# Altium integrated library Linear Technology Power Management System Supervisor, Monitor and Control.IntLib: 1611 symbols (part 100 of 100)
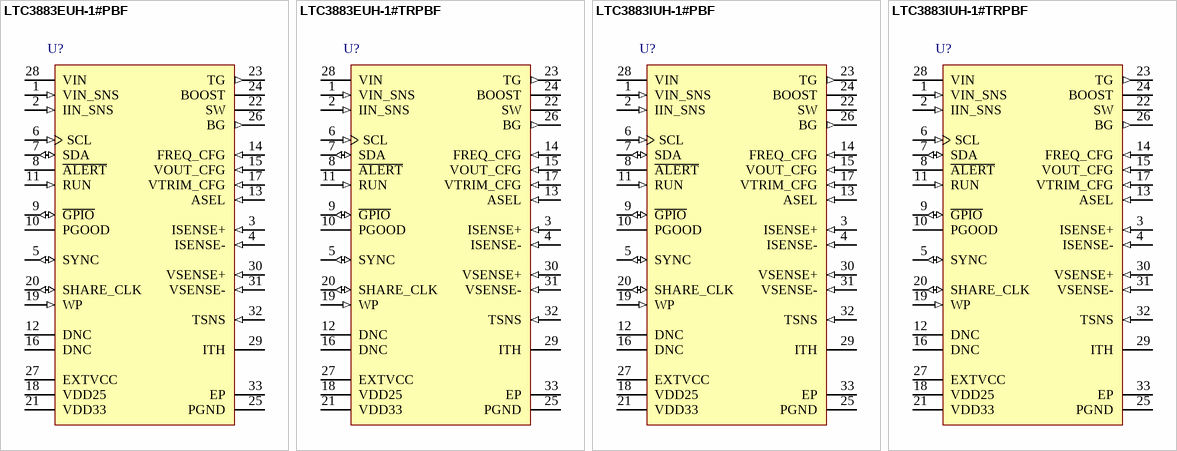
[diagram p144: symbols LTC3883EUH-1#PBF to LTC3883IUH-1#TRPBF]

## LTC3883EUH-1#PBF
designator U?
Single Phase Step-Down DC/DC Controller with Digital Power System Management, 32-pin QFN (UH-32), -40 to 105 degC, Pb-Free; Manufacturer: Linear Technology; PartNumber: LTC3883EUH-1#PBF; Number of Supplies(#): 1; PackageVersion: Rev. D, 06/2010; PackageReference: UH-32; PackageDescription: 32-Pin Plastic QFN, Body 5 x 5 mm, Pitch 0.5 mm; Supplier 1: Digi-Key; Supplier Part Number 1: LTC3883EUH-1#PBF-ND; Supplier 2: Farnell; Supplier Part Number 2: 2215166; Supplier 3: Newark; Supplier Part Number 3: 44W6811; RoHS: TRUE; Mounting Technology: Surface Mount; Code_JEDEC: MO-220; ComponentLink1Description: Manufacturer URL; ComponentLink1URL: http://www.linear.com/; ComponentLink2Description: Datasheet; ComponentLink2URL: http://cds.linear.com/docs/en/datasheet/3883f.pdf; ComponentLink3Description: Package Specification; ComponentLink3URL: http://cds.linear.com/docs/en/packaging/QFN_32_05-08-1693.pdf
footprint LT-UH-32_N (QFN, 32-Leads, Body 5.1x5.1mm, Pitch 0.5mm, Thermal Pad 3.45X3.45mm, IPC Medium Density)
footprint LT-UH-32_L (QFN, 32-Leads, Body 5.1x5.1mm, Pitch 0.5mm, Thermal Pad 3.45X3.45mm, IPC High Density)
footprint LT-UH-32_M (QFN, 32-Leads, Body 5.1x5.1mm, Pitch 0.5mm, Thermal Pad 3.45X3.45mm, IPC Low Density)
pins: 1 VIN_SNS (in) "Input Current Sense Comparator Input. The (-) input to the input current comparator is normally connected to the supply side of the input current sense resistor through a 100ohm resistor. If the input current sense amplifier (See Datasheet)", 2 IIN_SNS (in) "Input Current Sense Comparator Input. The (+) input to the input current comparator is normally connected to the power stage side of the input current sense resistor through a 100ohm resistor. If the input current sense (See Datasheet)", 3 ISENSE+ (in) "Current Sense Comparator Input. The (+) input to the current comparator is normally connected to the DCR sensing network or current sensing resistor.", 4 ISENSE- (in) "Current Sense Comparator Input. The (-) input is connected to the output.", 5 SYNC (io) "External Clock Synchronization Input and Open-Drain Output Pin. If an external clock is present at this pin, the switching frequency will be synchronized to the external clock. If clock master mode is enabled, this pin will (See Datasheet)", 6 SCL (in) "Serial Bus Clock Input. A pull-up resistor to 3.3V is required in the application.", 7 SDA (io) "Serial Bus Data Input and Output. A pull-up resistor to 3.3V is required in the application.", 8 ~{ALERT} (oc) "Open-Drain Digital Output. Connect the S\M\B\A\L\E\R\T\ signal to this pin.", 9 ~{GPIO} (io) "Digital Programmable General Purpose Inputs and Outputs. Open-drain output.", 10 PGOOD (oc) "Digital Power Good Indicator. Open-drain output.", 11 RUN (in) "Enable Run Input. Logic high on this pin enables the controller. This pin requires a resistor pullup to 3.3V in the application and should be driven by an open-drain digital output.", 12 DNC "Do Not Connect to This Pin.", 13 ASEL (in) "Serial Bus Address Configuration Input. Connect a +/-1% resistor divider between the chip VDD25 ASEL and GND in order to select the 4LSBs of the serial bus interface address. A resistor divider on ASEL is required if there (See Datasheet)", 14 FREQ_CFG (in) "Frequency or Phase Set/Select Pin. Connect a +/-1% resistor divider between the chip VDD25 FREQ_CFG and GND in order to select switching frequency or phase. If the pin is left open, the IC will use the value programmed in (See Datasheet)", 15 VOUT_CFG (in) "Output Voltage Select Pin. Connect a +/-1% resistor divider between the chip VDD25, VOUT_CFG and SGND in order to select output voltage. This voltage can be adjusted with the VTRIM_CFG pins. If the pin is left open, the IC (See Datasheet)", 16 DNC "Do Not Connect to This Pin.", 17 VTRIM_CFG (in) "Voltage Trim Select Pin. Connect a +/-1% resistor divider between the chip VDD25, VTRIM_CFG and SGND in order to adjust the output voltage set point. The VTRIM_CFG settings in conjunction with the VOUT_CFG setting adjusts (See Datasheet)", 18 VDD25 (power) "Internally Generated 2.5V Power Supply Output. Bypass this pin to GND with a low ESR 1uF capacitor. Do not load this pin with external current.", 19 WP (in) "Write Protect Pin Active High. An internal 10uA current source pulls the pin to VDD33. If WP is high, the PMBus writes are restricted.", 20 SHARE_CLK (io) "Share Clock, Bidirectional Open-Drain Clock Sharing Pin. Nominally 100kHz. Used to synchronize the timing between multiple LTC3883s. Tie all the SHARE_CLK pins together. All LTC3883s will synchronize to the fastest clock. An (See Datasheet)", 21 VDD33 (power) "Internally Generated 3.3V Power Supply Output. Bypass this pin to GND with a low ESR 1uF capacitor. Do not load this pin with external current.", 22 SW "Switch Node Connection to the Inductor. Voltage swings at the pins are from a Schottky diode (external) voltage drop below ground to VIN.", 23 TG (out) "Top Gate Driver Output. This is the output of the floating driver with a voltage swing equal to INTVCC superimposed on the switch node voltage.", 24 BOOST "Boosted Floating Driver Supply. The (+) terminal of the booststrap capacitor connects to this pin. This pin swings from a diode voltage drop below INTVCC up to VIN + INTVCC.", 25 PGND (power) "Power Ground Pin. Connect this pin closely to the source of the bottom N-channel MOSFET, the (-) terminal of CINTVCC and the (-) terminal of CIN.", 26 BG (out) "Bottom Gate Driver Output. This pin drives the gates of the bottom N-channel MOSFET between PGND and INTVCC.", 27 EXTVCC (power) "External Regulator 5V input. The control circuits are powered from this voltage. Decouple this pin to PGND with a minimum of 4.7uF low ESR tantalum or ceramic capacitor.", 28 VIN (power) "Main Input Supply. Decouple this pin to PGND with a capacitor (0.1uF to 1uF). For applications where the main input power is 5V, tie the VIN and INTVCC pins together. If the input current sense amplifier is not used, this (See Datasheet)", 29 ITH "Current Control Threshold and Error Amplifier Compensation Node. The current comparator tripping threshold increases with the ITH voltage.", 30 VSENSE+ (in) "Positive Voltage Sense Input.", 31 VSENSE- (in) "Negative Voltage Sense Input.", 32 TSNS (in) "External Diode Temperature Sense. Connect to the anode of a diode-connected PNP transistor and star connect the cathode to GND in order to sense remote temperature. If an external temperature sense element is not installed, (See Datasheet)", 33 EP (power) "Ground. All small-signal and compensation components should connect to this ground, which in turn connects to PGND at one point."

## LTC3883EUH-1#TRPBF
designator U?
Single Phase Step-Down DC/DC Controller with Digital Power System Management, 32-pin QFN (UH-32), -40 to 105 degC, Pb-Free, Tape and Reel; Manufacturer: Linear Technology; PartNumber: LTC3883EUH-1#TRPBF; Number of Supplies(#): 1; PackageVersion: Rev. D, 06/2010; PackageReference: UH-32; PackageDescription: 32-Pin Plastic QFN, Body 5 x 5 mm, Pitch 0.5 mm; Supplier 1: Digi-Key; Supplier Part Number 1: LTC3883EUH-1#TRPBF-ND; Supplier 2: Newark; Supplier Part Number 2: 44W6812; Packing: Tape and Reel; RoHS: TRUE; Mounting Technology: Surface Mount; Code_JEDEC: MO-220; ComponentLink1Description: Manufacturer URL; ComponentLink1URL: http://www.linear.com/; ComponentLink2Description: Datasheet; ComponentLink2URL: http://cds.linear.com/docs/en/datasheet/3883f.pdf; ComponentLink3Description: Package Specification; ComponentLink3URL: http://cds.linear.com/docs/en/packaging/QFN_32_05-08-1693.pdf
footprint LT-UH-32_N (QFN, 32-Leads, Body 5.1x5.1mm, Pitch 0.5mm, Thermal Pad 3.45X3.45mm, IPC Medium Density)
footprint LT-UH-32_L (QFN, 32-Leads, Body 5.1x5.1mm, Pitch 0.5mm, Thermal Pad 3.45X3.45mm, IPC High Density)
footprint LT-UH-32_M (QFN, 32-Leads, Body 5.1x5.1mm, Pitch 0.5mm, Thermal Pad 3.45X3.45mm, IPC Low Density)
pins: 1 VIN_SNS (in) "Input Current Sense Comparator Input. The (-) input to the input current comparator is normally connected to the supply side of the input current sense resistor through a 100ohm resistor. If the input current sense amplifier (See Datasheet)", 2 IIN_SNS (in) "Input Current Sense Comparator Input. The (+) input to the input current comparator is normally connected to the power stage side of the input current sense resistor through a 100ohm resistor. If the input current sense (See Datasheet)", 3 ISENSE+ (in) "Current Sense Comparator Input. The (+) input to the current comparator is normally connected to the DCR sensing network or current sensing resistor.", 4 ISENSE- (in) "Current Sense Comparator Input. The (-) input is connected to the output.", 5 SYNC (io) "External Clock Synchronization Input and Open-Drain Output Pin. If an external clock is present at this pin, the switching frequency will be synchronized to the external clock. If clock master mode is enabled, this pin will (See Datasheet)", 6 SCL (in) "Serial Bus Clock Input. A pull-up resistor to 3.3V is required in the application.", 7 SDA (io) "Serial Bus Data Input and Output. A pull-up resistor to 3.3V is required in the application.", 8 ~{ALERT} (oc) "Open-Drain Digital Output. Connect the S\M\B\A\L\E\R\T\ signal to this pin.", 9 ~{GPIO} (io) "Digital Programmable General Purpose Inputs and Outputs. Open-drain output.", 10 PGOOD (oc) "Digital Power Good Indicator. Open-drain output.", 11 RUN (in) "Enable Run Input. Logic high on this pin enables the controller. This pin requires a resistor pullup to 3.3V in the application and should be driven by an open-drain digital output.", 12 DNC "Do Not Connect to This Pin.", 13 ASEL (in) "Serial Bus Address Configuration Input. Connect a +/-1% resistor divider between the chip VDD25 ASEL and GND in order to select the 4LSBs of the serial bus interface address. A resistor divider on ASEL is required if there (See Datasheet)", 14 FREQ_CFG (in) "Frequency or Phase Set/Select Pin. Connect a +/-1% resistor divider between the chip VDD25 FREQ_CFG and GND in order to select switching frequency or phase. If the pin is left open, the IC will use the value programmed in (See Datasheet)", 15 VOUT_CFG (in) "Output Voltage Select Pin. Connect a +/-1% resistor divider between the chip VDD25, VOUT_CFG and SGND in order to select output voltage. This voltage can be adjusted with the VTRIM_CFG pins. If the pin is left open, the IC (See Datasheet)", 16 DNC "Do Not Connect to This Pin.", 17 VTRIM_CFG (in) "Voltage Trim Select Pin. Connect a +/-1% resistor divider between the chip VDD25, VTRIM_CFG and SGND in order to adjust the output voltage set point. The VTRIM_CFG settings in conjunction with the VOUT_CFG setting adjusts (See Datasheet)", 18 VDD25 (power) "Internally Generated 2.5V Power Supply Output. Bypass this pin to GND with a low ESR 1uF capacitor. Do not load this pin with external current.", 19 WP (in) "Write Protect Pin Active High. An internal 10uA current source pulls the pin to VDD33. If WP is high, the PMBus writes are restricted.", 20 SHARE_CLK (io) "Share Clock, Bidirectional Open-Drain Clock Sharing Pin. Nominally 100kHz. Used to synchronize the timing between multiple LTC3883s. Tie all the SHARE_CLK pins together. All LTC3883s will synchronize to the fastest clock. An (See Datasheet)", 21 VDD33 (power) "Internally Generated 3.3V Power Supply Output. Bypass this pin to GND with a low ESR 1uF capacitor. Do not load this pin with external current.", 22 SW "Switch Node Connection to the Inductor. Voltage swings at the pins are from a Schottky diode (external) voltage drop below ground to VIN.", 23 TG (out) "Top Gate Driver Output. This is the output of the floating driver with a voltage swing equal to INTVCC superimposed on the switch node voltage.", 24 BOOST "Boosted Floating Driver Supply. The (+) terminal of the booststrap capacitor connects to this pin. This pin swings from a diode voltage drop below INTVCC up to VIN + INTVCC.", 25 PGND (power) "Power Ground Pin. Connect this pin closely to the source of the bottom N-channel MOSFET, the (-) terminal of CINTVCC and the (-) terminal of CIN.", 26 BG (out) "Bottom Gate Driver Output. This pin drives the gates of the bottom N-channel MOSFET between PGND and INTVCC.", 27 EXTVCC (power) "External Regulator 5V input. The control circuits are powered from this voltage. Decouple this pin to PGND with a minimum of 4.7uF low ESR tantalum or ceramic capacitor.", 28 VIN (power) "Main Input Supply. Decouple this pin to PGND with a capacitor (0.1uF to 1uF). For applications where the main input power is 5V, tie the VIN and INTVCC pins together. If the input current sense amplifier is not used, this (See Datasheet)", 29 ITH "Current Control Threshold and Error Amplifier Compensation Node. The current comparator tripping threshold increases with the ITH voltage.", 30 VSENSE+ (in) "Positive Voltage Sense Input.", 31 VSENSE- (in) "Negative Voltage Sense Input.", 32 TSNS (in) "External Diode Temperature Sense. Connect to the anode of a diode-connected PNP transistor and star connect the cathode to GND in order to sense remote temperature. If an external temperature sense element is not installed, (See Datasheet)", 33 EP (power) "Ground. All small-signal and compensation components should connect to this ground, which in turn connects to PGND at one point."

## LTC3883IUH-1#PBF
designator U?
Single Phase Step-Down DC/DC Controller with Digital Power System Management, 32-pin QFN (UH-32), -40 to 125 degC, Pb-Free; Manufacturer: Linear Technology; PartNumber: LTC3883IUH-1#PBF; Number of Supplies(#): 1; PackageVersion: Rev. D, 06/2010; PackageReference: UH-32; PackageDescription: 32-Pin Plastic QFN, Body 5 x 5 mm, Pitch 0.5 mm; Supplier 1: Digi-Key; Supplier Part Number 1: LTC3883IUH-1#PBF-ND; Supplier 2: Farnell; Supplier Part Number 2: 2215168; Supplier 3: Newark; Supplier Part Number 3: 44W6815; RoHS: TRUE; Mounting Technology: Surface Mount; Code_JEDEC: MO-220; ComponentLink1Description: Manufacturer URL; ComponentLink1URL: http://www.linear.com/; ComponentLink2Description: Datasheet; ComponentLink2URL: http://cds.linear.com/docs/en/datasheet/3883f.pdf; ComponentLink3Description: Package Specification; ComponentLink3URL: http://cds.linear.com/docs/en/packaging/QFN_32_05-08-1693.pdf
footprint LT-UH-32_N (QFN, 32-Leads, Body 5.1x5.1mm, Pitch 0.5mm, Thermal Pad 3.45X3.45mm, IPC Medium Density)
footprint LT-UH-32_L (QFN, 32-Leads, Body 5.1x5.1mm, Pitch 0.5mm, Thermal Pad 3.45X3.45mm, IPC High Density)
footprint LT-UH-32_M (QFN, 32-Leads, Body 5.1x5.1mm, Pitch 0.5mm, Thermal Pad 3.45X3.45mm, IPC Low Density)
pins: 1 VIN_SNS (in) "Input Current Sense Comparator Input. The (-) input to the input current comparator is normally connected to the supply side of the input current sense resistor through a 100ohm resistor. If the input current sense amplifier (See Datasheet)", 2 IIN_SNS (in) "Input Current Sense Comparator Input. The (+) input to the input current comparator is normally connected to the power stage side of the input current sense resistor through a 100ohm resistor. If the input current sense (See Datasheet)", 3 ISENSE+ (in) "Current Sense Comparator Input. The (+) input to the current comparator is normally connected to the DCR sensing network or current sensing resistor.", 4 ISENSE- (in) "Current Sense Comparator Input. The (-) input is connected to the output.", 5 SYNC (io) "External Clock Synchronization Input and Open-Drain Output Pin. If an external clock is present at this pin, the switching frequency will be synchronized to the external clock. If clock master mode is enabled, this pin will (See Datasheet)", 6 SCL (in) "Serial Bus Clock Input. A pull-up resistor to 3.3V is required in the application.", 7 SDA (io) "Serial Bus Data Input and Output. A pull-up resistor to 3.3V is required in the application.", 8 ~{ALERT} (oc) "Open-Drain Digital Output. Connect the S\M\B\A\L\E\R\T\ signal to this pin.", 9 ~{GPIO} (io) "Digital Programmable General Purpose Inputs and Outputs. Open-drain output.", 10 PGOOD (oc) "Digital Power Good Indicator. Open-drain output.", 11 RUN (in) "Enable Run Input. Logic high on this pin enables the controller. This pin requires a resistor pullup to 3.3V in the application and should be driven by an open-drain digital output.", 12 DNC "Do Not Connect to This Pin.", 13 ASEL (in) "Serial Bus Address Configuration Input. Connect a +/-1% resistor divider between the chip VDD25 ASEL and GND in order to select the 4LSBs of the serial bus interface address. A resistor divider on ASEL is required if there (See Datasheet)", 14 FREQ_CFG (in) "Frequency or Phase Set/Select Pin. Connect a +/-1% resistor divider between the chip VDD25 FREQ_CFG and GND in order to select switching frequency or phase. If the pin is left open, the IC will use the value programmed in (See Datasheet)", 15 VOUT_CFG (in) "Output Voltage Select Pin. Connect a +/-1% resistor divider between the chip VDD25, VOUT_CFG and SGND in order to select output voltage. This voltage can be adjusted with the VTRIM_CFG pins. If the pin is left open, the IC (See Datasheet)", 16 DNC "Do Not Connect to This Pin.", 17 VTRIM_CFG (in) "Voltage Trim Select Pin. Connect a +/-1% resistor divider between the chip VDD25, VTRIM_CFG and SGND in order to adjust the output voltage set point. The VTRIM_CFG settings in conjunction with the VOUT_CFG setting adjusts (See Datasheet)", 18 VDD25 (power) "Internally Generated 2.5V Power Supply Output. Bypass this pin to GND with a low ESR 1uF capacitor. Do not load this pin with external current.", 19 WP (in) "Write Protect Pin Active High. An internal 10uA current source pulls the pin to VDD33. If WP is high, the PMBus writes are restricted.", 20 SHARE_CLK (io) "Share Clock, Bidirectional Open-Drain Clock Sharing Pin. Nominally 100kHz. Used to synchronize the timing between multiple LTC3883s. Tie all the SHARE_CLK pins together. All LTC3883s will synchronize to the fastest clock. An (See Datasheet)", 21 VDD33 (power) "Internally Generated 3.3V Power Supply Output. Bypass this pin to GND with a low ESR 1uF capacitor. Do not load this pin with external current.", 22 SW "Switch Node Connection to the Inductor. Voltage swings at the pins are from a Schottky diode (external) voltage drop below ground to VIN.", 23 TG (out) "Top Gate Driver Output. This is the output of the floating driver with a voltage swing equal to INTVCC superimposed on the switch node voltage.", 24 BOOST "Boosted Floating Driver Supply. The (+) terminal of the booststrap capacitor connects to this pin. This pin swings from a diode voltage drop below INTVCC up to VIN + INTVCC.", 25 PGND (power) "Power Ground Pin. Connect this pin closely to the source of the bottom N-channel MOSFET, the (-) terminal of CINTVCC and the (-) terminal of CIN.", 26 BG (out) "Bottom Gate Driver Output. This pin drives the gates of the bottom N-channel MOSFET between PGND and INTVCC.", 27 EXTVCC (power) "External Regulator 5V input. The control circuits are powered from this voltage. Decouple this pin to PGND with a minimum of 4.7uF low ESR tantalum or ceramic capacitor.", 28 VIN (power) "Main Input Supply. Decouple this pin to PGND with a capacitor (0.1uF to 1uF). For applications where the main input power is 5V, tie the VIN and INTVCC pins together. If the input current sense amplifier is not used, this (See Datasheet)", 29 ITH "Current Control Threshold and Error Amplifier Compensation Node. The current comparator tripping threshold increases with the ITH voltage.", 30 VSENSE+ (in) "Positive Voltage Sense Input.", 31 VSENSE- (in) "Negative Voltage Sense Input.", 32 TSNS (in) "External Diode Temperature Sense. Connect to the anode of a diode-connected PNP transistor and star connect the cathode to GND in order to sense remote temperature. If an external temperature sense element is not installed, (See Datasheet)", 33 EP (power) "Ground. All small-signal and compensation components should connect to this ground, which in turn connects to PGND at one point."

## LTC3883IUH-1#TRPBF
designator U?
Single Phase Step-Down DC/DC Controller with Digital Power System Management, 32-pin QFN (UH-32), -40 to 125 degC, Pb-Free, Tape and Reel; Manufacturer: Linear Technology; PartNumber: LTC3883IUH-1#TRPBF; Number of Supplies(#): 1; PackageVersion: Rev. D, 06/2010; PackageReference: UH-32; PackageDescription: 32-Pin Plastic QFN, Body 5 x 5 mm, Pitch 0.5 mm; Supplier 1: Digi-Key; Supplier Part Number 1: LTC3883IUH-1#TRPBF-ND; Supplier 2: Newark; Supplier Part Number 2: 44W6816; Packing: Tape and Reel; RoHS: TRUE; Mounting Technology: Surface Mount; Code_JEDEC: MO-220; ComponentLink1Description: Manufacturer URL; ComponentLink1URL: http://www.linear.com/; ComponentLink2Description: Datasheet; ComponentLink2URL: http://cds.linear.com/docs/en/datasheet/3883f.pdf; ComponentLink3Description: Package Specification; ComponentLink3URL: http://cds.linear.com/docs/en/packaging/QFN_32_05-08-1693.pdf
footprint LT-UH-32_N (QFN, 32-Leads, Body 5.1x5.1mm, Pitch 0.5mm, Thermal Pad 3.45X3.45mm, IPC Medium Density)
footprint LT-UH-32_L (QFN, 32-Leads, Body 5.1x5.1mm, Pitch 0.5mm, Thermal Pad 3.45X3.45mm, IPC High Density)
footprint LT-UH-32_M (QFN, 32-Leads, Body 5.1x5.1mm, Pitch 0.5mm, Thermal Pad 3.45X3.45mm, IPC Low Density)
pins: 1 VIN_SNS (in) "Input Current Sense Comparator Input. The (-) input to the input current comparator is normally connected to the supply side of the input current sense resistor through a 100ohm resistor. If the input current sense amplifier (See Datasheet)", 2 IIN_SNS (in) "Input Current Sense Comparator Input. The (+) input to the input current comparator is normally connected to the power stage side of the input current sense resistor through a 100ohm resistor. If the input current sense (See Datasheet)", 3 ISENSE+ (in) "Current Sense Comparator Input. The (+) input to the current comparator is normally connected to the DCR sensing network or current sensing resistor.", 4 ISENSE- (in) "Current Sense Comparator Input. The (-) input is connected to the output.", 5 SYNC (io) "External Clock Synchronization Input and Open-Drain Output Pin. If an external clock is present at this pin, the switching frequency will be synchronized to the external clock. If clock master mode is enabled, this pin will (See Datasheet)", 6 SCL (in) "Serial Bus Clock Input. A pull-up resistor to 3.3V is required in the application.", 7 SDA (io) "Serial Bus Data Input and Output. A pull-up resistor to 3.3V is required in the application.", 8 ~{ALERT} (oc) "Open-Drain Digital Output. Connect the S\M\B\A\L\E\R\T\ signal to this pin.", 9 ~{GPIO} (io) "Digital Programmable General Purpose Inputs and Outputs. Open-drain output.", 10 PGOOD (oc) "Digital Power Good Indicator. Open-drain output.", 11 RUN (in) "Enable Run Input. Logic high on this pin enables the controller. This pin requires a resistor pullup to 3.3V in the application and should be driven by an open-drain digital output.", 12 DNC "Do Not Connect to This Pin.", 13 ASEL (in) "Serial Bus Address Configuration Input. Connect a +/-1% resistor divider between the chip VDD25 ASEL and GND in order to select the 4LSBs of the serial bus interface address. A resistor divider on ASEL is required if there (See Datasheet)", 14 FREQ_CFG (in) "Frequency or Phase Set/Select Pin. Connect a +/-1% resistor divider between the chip VDD25 FREQ_CFG and GND in order to select switching frequency or phase. If the pin is left open, the IC will use the value programmed in (See Datasheet)", 15 VOUT_CFG (in) "Output Voltage Select Pin. Connect a +/-1% resistor divider between the chip VDD25, VOUT_CFG and SGND in order to select output voltage. This voltage can be adjusted with the VTRIM_CFG pins. If the pin is left open, the IC (See Datasheet)", 16 DNC "Do Not Connect to This Pin.", 17 VTRIM_CFG (in) "Voltage Trim Select Pin. Connect a +/-1% resistor divider between the chip VDD25, VTRIM_CFG and SGND in order to adjust the output voltage set point. The VTRIM_CFG settings in conjunction with the VOUT_CFG setting adjusts (See Datasheet)", 18 VDD25 (power) "Internally Generated 2.5V Power Supply Output. Bypass this pin to GND with a low ESR 1uF capacitor. Do not load this pin with external current.", 19 WP (in) "Write Protect Pin Active High. An internal 10uA current source pulls the pin to VDD33. If WP is high, the PMBus writes are restricted.", 20 SHARE_CLK (io) "Share Clock, Bidirectional Open-Drain Clock Sharing Pin. Nominally 100kHz. Used to synchronize the timing between multiple LTC3883s. Tie all the SHARE_CLK pins together. All LTC3883s will synchronize to the fastest clock. An (See Datasheet)", 21 VDD33 (power) "Internally Generated 3.3V Power Supply Output. Bypass this pin to GND with a low ESR 1uF capacitor. Do not load this pin with external current.", 22 SW "Switch Node Connection to the Inductor. Voltage swings at the pins are from a Schottky diode (external) voltage drop below ground to VIN.", 23 TG (out) "Top Gate Driver Output. This is the output of the floating driver with a voltage swing equal to INTVCC superimposed on the switch node voltage.", 24 BOOST "Boosted Floating Driver Supply. The (+) terminal of the booststrap capacitor connects to this pin. This pin swings from a diode voltage drop below INTVCC up to VIN + INTVCC.", 25 PGND (power) "Power Ground Pin. Connect this pin closely to the source of the bottom N-channel MOSFET, the (-) terminal of CINTVCC and the (-) terminal of CIN.", 26 BG (out) "Bottom Gate Driver Output. This pin drives the gates of the bottom N-channel MOSFET between PGND and INTVCC.", 27 EXTVCC (power) "External Regulator 5V input. The control circuits are powered from this voltage. Decouple this pin to PGND with a minimum of 4.7uF low ESR tantalum or ceramic capacitor.", 28 VIN (power) "Main Input Supply. Decouple this pin to PGND with a capacitor (0.1uF to 1uF). For applications where the main input power is 5V, tie the VIN and INTVCC pins together. If the input current sense amplifier is not used, this (See Datasheet)", 29 ITH "Current Control Threshold and Error Amplifier Compensation Node. The current comparator tripping threshold increases with the ITH voltage.", 30 VSENSE+ (in) "Positive Voltage Sense Input.", 31 VSENSE- (in) "Negative Voltage Sense Input.", 32 TSNS (in) "External Diode Temperature Sense. Connect to the anode of a diode-connected PNP transistor and star connect the cathode to GND in order to sense remote temperature. If an external temperature sense element is not installed, (See Datasheet)", 33 EP (power) "Ground. All small-signal and compensation components should connect to this ground, which in turn connects to PGND at one point."